# Altium schematic symbol library Phoenix.SchLib: 4 symbols
Pins are listed as number, name and electrical type; pins without a type are passive.

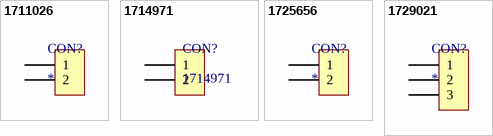
[diagram p0: symbols 1711026 to 1729021]

## 1711026
designator CON?
Conn Term (screw) Block 5mm 2Pos 18mm height; Digikey Part Number: 277-1022-ND
footprint 1711026 (CONN TERM BLOCK 2POS 5MM PCB 18mm height)
pins: 1, 2

## 1714971
designator CON?
2 position screw terminal block 30A; DigiKey part number: 277-1271-ND
footprint 1714971 (2 position screw terminal block 30A)
footprint 1714971 (2 position screw terminal block 30A)
pins: 1, 2

## 1725656
designator CON?
CONN TERM BLOCK 2.54MM 2POS
footprint 1725656 (CONN TERM BLOCK 2.54MM 2POS)
pins: 1, 2

## 1729021
designator CON?
CONN TERM BLOCK 3POS 5MM PCB 10mm height; Digikey part Number: 277-1237-ND
footprint 1729021 (CONN TERM BLOCK 3POS 5MM PCB 10mm height)
pins: 1, 2, 3